# EAGLE library part TLC5971 (library MaxHenstell)
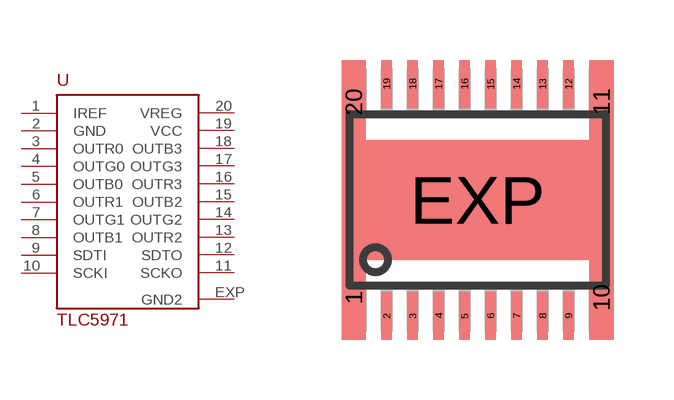
[diagram p0: symbol with the pads of HTSSOP20PWP; footprint HTSSOP20PWP]

Designator prefix -

## TLC5971  [HTSSOP20PWP]
1  IREF  in
2  GND  pwr
3  OUTR0  out
4  OUTG0  out
5  OUTB0  out
6  OUTR1  out
7  OUTG1  out
8  OUTB1  out
9  SDTI  in
10  SCKI  in
11  SCKO  out
12  SDTO  out
13  OUTR2  out
14  OUTG2  out
15  OUTB2  out
16  OUTR3  out
17  OUTG3  out
18  OUTB3  out
19  VCC  pwr
20  VREG  pwr
EXP  GND2  pwr

## Footprint HTSSOP20PWP (pad centres in mm)
smd 0.61 x 2.1: 1 -3.095,-2.45; 10 3.095,-2.45; 11 3.095,2.45; 20 -3.095,2.45
smd 0.27 x 1.2: 2 -2.275,-2.9; 3 -1.625,-2.9; 4 -0.975,-2.9; 5 -0.325,-2.9; 6 0.325,-2.9; 7 0.975,-2.9; 8 1.625,-2.9; 9 2.275,-2.9; 12 2.275,2.9; 13 1.625,2.9; 14 0.975,2.9; 15 0.325,2.9; 16 -0.325,2.9; 17 -0.975,2.9; 18 -1.625,2.9; 19 -2.275,2.9
smd 6.8 x 3: EXP 0,0